# EAGLE library part TD-110-G-A (library SAMTEC-Txx_By_element14_Batch_1)
CONN RECEPTACLE, 2.54MM, THT VERT, 20WAY
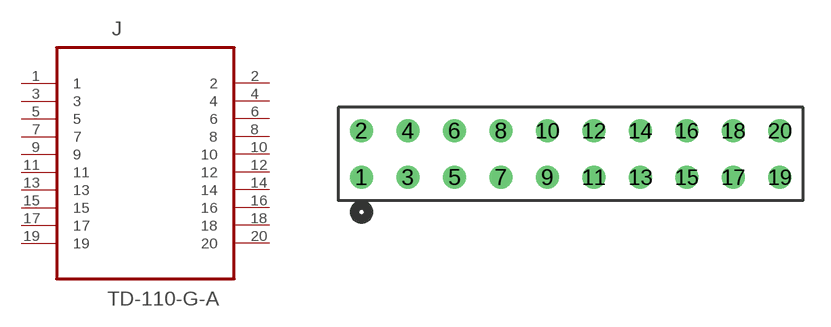
[diagram p14: symbol with the pads of SAMTEC_TD-110-G-A; footprint SAMTEC_TD-110-G-A]

Designator prefix J

## TD-110-G-A (MPN: TD-110-G-A; OC_FARNELL: 1668425; OC_NEWARK: 12P0244; PACKAGE: RECEPTACLE, 2.54MM, THT VERT,20WAY; SUPPLIER: SAMTEC)  [SAMTEC_TD-110-G-A]
1  1  pas
2  2  pas
3  3  pas
4  4  pas
5  5  pas
6  6  pas
7  7  pas
8  8  pas
9  9  pas
10  10  pas
11  11  pas
12  12  pas
13  13  pas
14  14  pas
15  15  pas
16  16  pas
17  17  pas
18  18  pas
19  19  pas
20  20  pas

## Footprint SAMTEC_TD-110-G-A (pad centres in mm)
drill 0.762: 1 -22.86,-2.54; 2 -22.86,0; 3 -20.32,-2.54; 4 -20.32,0; 5 -17.78,-2.54; 6 -17.78,0; 7 -15.24,-2.54; 8 -15.24,0; 9 -12.7,-2.54; 10 -12.7,0; 11 -10.16,-2.54; 12 -10.16,0; 13 -7.62,-2.54; 14 -7.62,0; 15 -5.08,-2.54; 16 -5.08,0; 17 -2.54,-2.54; 18 -2.54,0; 19 0,-2.54; 20 0,0